# Altium schematic symbol library library.SchLib: 1 symbol
Pins are listed as number, name and electrical type; pins without a type are passive.

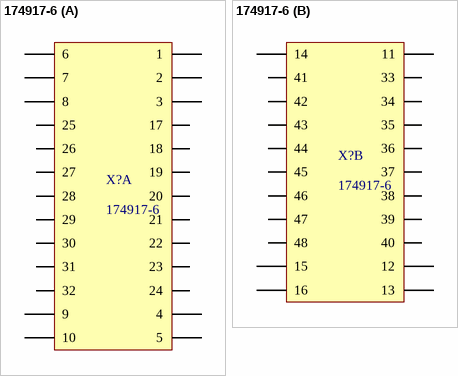
[diagram p0: symbol 174917-6]

## 174917-6
designator X?
PCB Mount Header, Right Angle, Wire-to-Board, 48 Position, 3.5 mm / 3 mm [.138 in / .118 in] Centerline, Fully Shrouded, Multilock Connector System; ComponentLink1Description: TE; ComponentLink1URL: https://www.te.com/en/product-174917-6.html
footprint 174917-6
part A pins: 1, 2, 3, 4, 5, 6, 7, 8, 9, 10, 17, 18, 19, 20, 21, 22, 23, 24, 25, 26, 27, 28, 29, 30, 31, 32
part B pins: 11, 12, 13, 14, 15, 16, 33, 34, 35, 36, 37, 38, 39, 40, 41, 42, 43, 44, 45, 46, 47, 48